# EAGLE library part RFM12BS (library Tropotek)
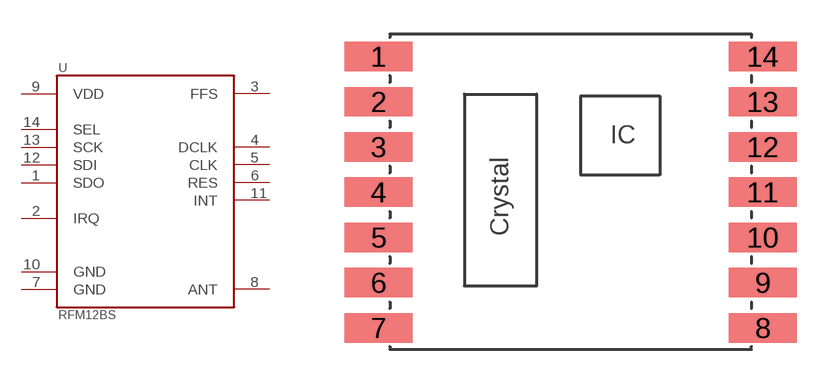
[diagram p0: symbol with the pads of RFM12SB; footprint RFM12SB]

Designator prefix -

## RFM12BS  [RFM12SB]
1  SDO  out
2  IRQ  out
3  FFS
4  DCLK
5  CLK  out
6  RES
7  GND  pwr
8  ANT
9  VDD  pwr
10  GND  pwr
11  INT
12  SDI  in
13  SCK  in
14  SEL  in

## Footprint RFM12SB (pad centres in mm)
smd 3 x 1.3: 1 -8.5,7; 2 -8.5,5; 3 -8.5,3; 4 -8.5,1; 5 -8.5,-1; 6 -8.5,-3; 7 -8.5,-5; 8 8.5,-5; 9 8.5,-3; 10 8.5,-1; 11 8.5,1; 12 8.5,3; 13 8.5,5; 14 8.5,7